# Altium schematic symbol library TAS-E18V_SCH_Footprint_AD_20200608.SchLib: 1 symbol
Pins are listed as number, name and electrical type; pins without a type are passive.

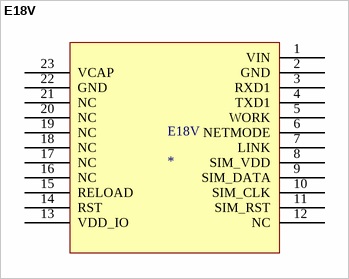
[diagram p0: symbol E18V]

## E18V
designator E18V
pins: 1 VIN, 2 GND, 3 RXD1, 4 TXD1, 5 WORK, 6 NETMODE, 7 LINK, 8 SIM_VDD, 9 SIM_DATA, 10 SIM_CLK, 11 SIM_RST, 12 NC, 13 VDD_IO, 14 RST, 15 RELOAD, 16 NC, 17 NC, 18 NC, 19 NC, 20 NC, 21 NC, 22 GND, 23 VCAP